# EAGLE library part HD-E101 (library display-hp)
LED DISPLAY 1-character 7 segment, decimal point right
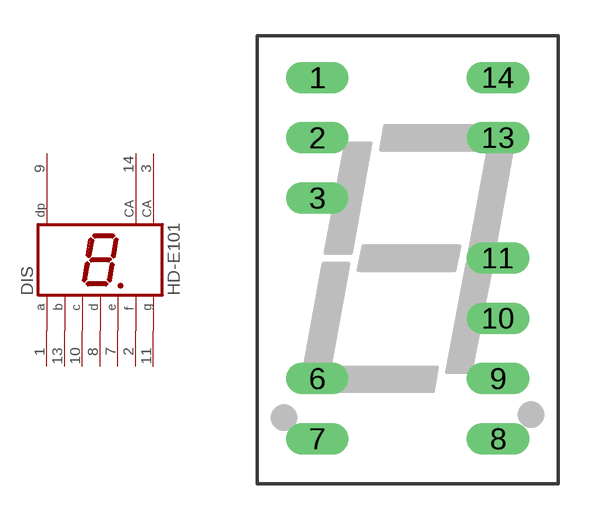
[diagram p17: symbol with the pads of HDSP-I; footprint HDSP-I]

Designator prefix DIS

## HD-E101 (OC_FARNELL: unknown; OC_NEWARK: unknown)  [HDSP-I]
1  A  pas
2  F  pas
3  CA  pas
7  E  pas
8  D  pas
9  DP  pas
10  C  pas
11  G  pas
13  B  pas
14  CA  pas

## Footprint HDSP-I (pad centres in mm)
LED DISPLAY 12-mm 1 character 7 segment, 2 decimal points
drill 0.813 long: 1 -3.81,7.62; 2 -3.81,5.08; 3 -3.81,2.54; 6 -3.81,-5.08; 7 -3.81,-7.62; 8 3.81,-7.62; 9 3.81,-5.08; 10 3.81,-2.54; 11 3.81,0; 13 3.81,5.08; 14 3.81,7.62